# EAGLE library part INA821ID (library INA821ID_TI)
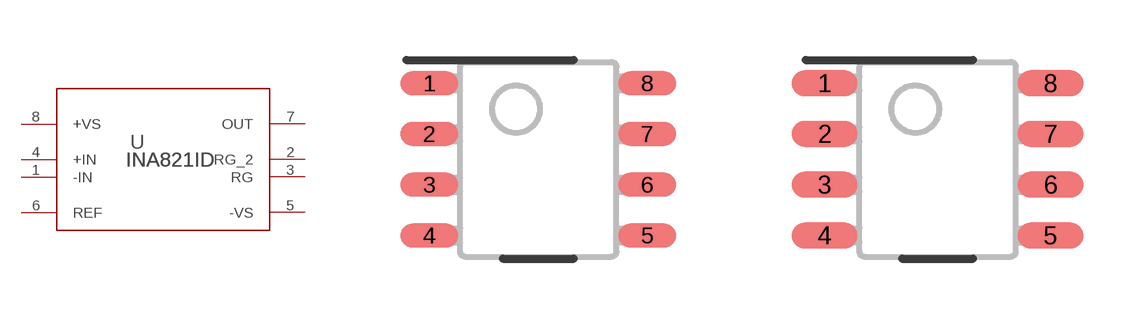
[diagram p0: symbol with the pads of D0008A_N; footprints D0008A_N, D0008A_M]

Designator prefix U

## INA821ID (MANUFACTURER: Texas Instruments; PARTNUMBER: INA821ID; REFDES: RefDes; TYPE: TYPE; VALUE: Value)  [D0008A_N]
1  -IN  in
2  RG_2  in
3  RG  in
4  +IN  in
5  -VS  pwr
6  REF  in
7  OUT  out
8  +VS  pwr

## INA821IDD0008A_M (MANUFACTURER: Texas Instruments; PARTNUMBER: INA821ID; REFDES: RefDes; TYPE: TYPE; VALUE: Value)  [D0008A_M]
Pads as for D0008A_N

## INA821IDD0008A_L (MANUFACTURER: Texas Instruments; PARTNUMBER: INA821ID; REFDES: RefDes; TYPE: TYPE; VALUE: Value)  [D0008A_L]
Pads as for D0008A_N

## Footprint D0008A_N (pad centres in mm)
smd 1.45 x 0.6: 1 -2.725,1.905; 2 -2.725,0.635; 3 -2.725,-0.635; 4 -2.725,-1.905; 5 2.725,-1.905; 6 2.725,-0.635; 7 2.725,0.635; 8 2.725,1.905

## Footprint D0008A_M (pad centres in mm)
smd 1.65 x 0.65: 1 -2.825,1.905; 2 -2.825,0.635; 3 -2.825,-0.635; 4 -2.825,-1.905; 5 2.825,-1.905; 6 2.825,-0.635; 7 2.825,0.635; 8 2.825,1.905

## Footprint D0008A_L (pad centres in mm)
smd 1.25 x 0.55: 1 -2.625,1.905; 2 -2.625,0.635; 3 -2.625,-0.635; 4 -2.625,-1.905; 5 2.625,-1.905; 6 2.625,-0.635; 7 2.625,0.635; 8 2.625,1.905